# Altium footprint library PcbLib2.PcbLib: 33 footprints (part 2 of 3)
Each footprint in its own frame and in the unit in brackets; x right, y up, seen from the top. Pads: shape width x height; smd on the part's side, far side on the other; paste and mask are expansions set on the pad; w line width, h text height; cw(c..) or ccw(c..) is an arc to the next point about the centre after c.
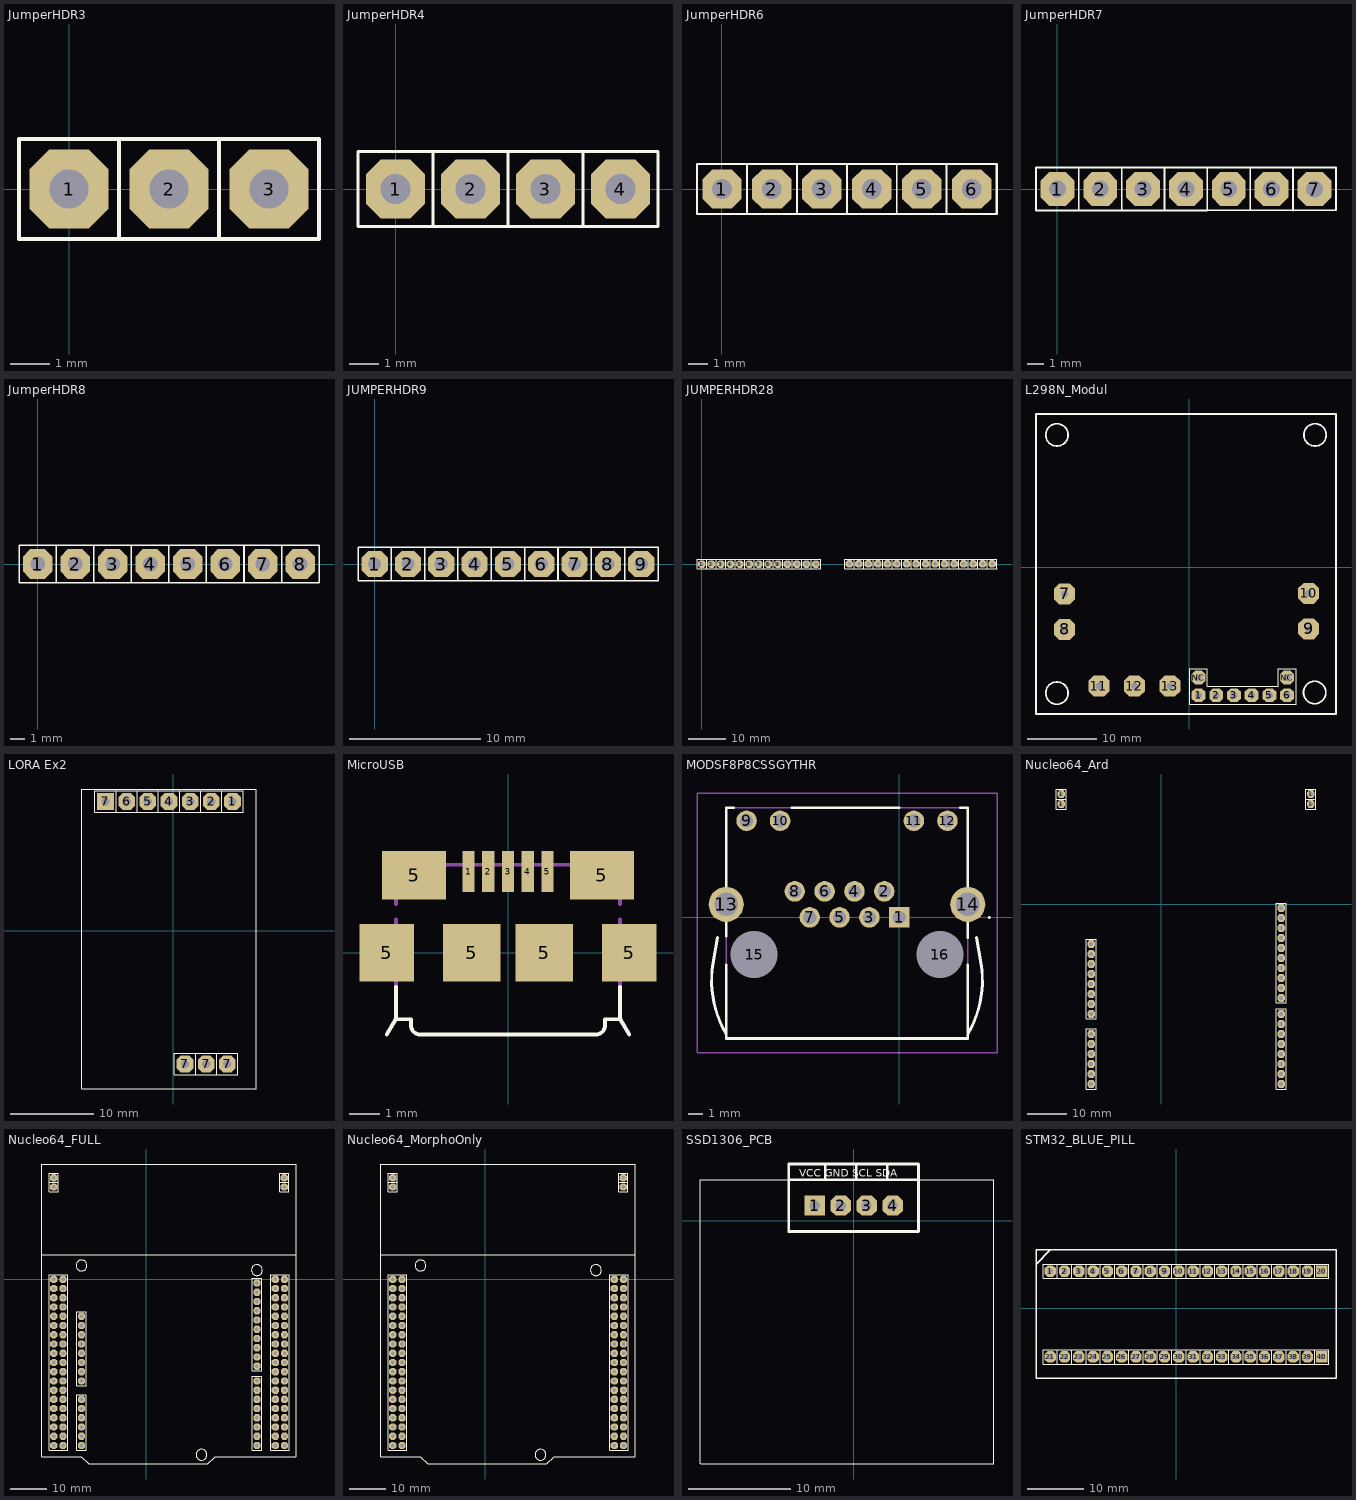
[diagram p1: the footprints below, top view; thin cyan lines are the x and y axes]

## JumperHDR3 [mm]
pads (3):
  oct 2x2 hole 1: 1(0,0) 2(2.54,0) 3(5.08,0)
Top Overlay:
  lines w0.1: 1.27,-1.27 3.81,-1.27 ; 1.27,-1.27 -1.27,-1.27 -1.27,1.27 1.27,1.27 ; 1.27,-1.27 1.27,1.27 ; 1.27,1.27 3.556,1.27 3.81,1.27 ; 3.81,-1.27 3.81,1.27 ; 3.81,-1.27 3.81,1.27 ; 3.81,-1.27 6.35,-1.27 6.35,1.27 3.81,1.27

## JumperHDR4 [mm]
pads (4):
  oct 2x2 hole 1: 1(0,0) 2(2.54,0) 3(5.08,0) 4(7.62,0)
Top Overlay:
  lines w0.1: 1.27,-1.27 3.81,-1.27 ; 1.27,-1.27 -1.27,-1.27 -1.27,1.27 1.27,1.27 ; 1.27,-1.27 1.27,1.27 ; 1.27,1.27 3.556,1.27 3.81,1.27 ; 3.81,-1.27 3.81,1.27 ; 3.81,-1.27 3.81,1.27 ; 3.81,-1.27 6.35,-1.27 ; 3.81,1.27 6.35,1.27 ; 6.35,-1.27 8.89,-1.27 8.89,1.27 8.636,1.27 6.35,1.27 ; 6.35,-1.27 6.35,1.27

## JumperHDR6 [mm]
pads (6):
  oct 2x2 hole 1: 1(0,0) 2(2.54,0) 3(5.08,0) 4(7.62,0) 5(10.16,0) 6(12.7,0)
Top Overlay:
  lines w0.1: 8.85,1.27 13.95,1.27 ; 8.89,-1.263 13.99,-1.263 ; 11.43,-1.26 11.43,1.26 ; 13.97,-1.27 13.97,1.27 ; 13.98,-1.27 13.98,1.27 ; 1.27,-1.27 1.27,1.27 ; 1.27,-1.27 -1.27,-1.27 -1.27,1.27 1.27,1.27 ; 1.27,-1.27 3.81,-1.27 ; 1.27,1.27 3.556,1.27 3.81,1.27 ; 3.81,-1.27 6.35,-1.27 ; 3.81,-1.27 3.81,1.27 ; 3.81,-1.27 3.81,1.27 ; 3.81,1.27 6.35,1.27 ; 6.35,-1.27 6.35,1.27 ; 6.35,-1.27 8.89,-1.27 8.89,1.27 8.636,1.27 6.35,1.27

## JumperHDR7 [mm]
pads (7):
  oct 2x2 hole 1: 1(0,0) 2(2.54,0) 3(5.08,0) 4(7.62,0) 5(10.16,0) 6(12.7,0) 7(15.24,0)
Top Overlay:
  lines w0.1: 8.85,1.27 13.95,1.27 ; 8.89,-1.263 13.99,-1.263 ; 11.43,-1.26 11.43,1.26 ; 13.97,-1.27 13.97,1.27 ; 13.98,1.27 13.98,-1.267 16.52,-1.267 16.52,1.27 14.01,1.27 ; 1.27,-1.27 3.81,-1.27 ; 1.27,-1.27 -1.27,-1.27 -1.27,1.27 1.27,1.27 ; 1.27,-1.27 1.27,1.27 ; 1.27,1.27 3.556,1.27 3.81,1.27 ; 3.81,-1.27 3.81,1.27 ; 3.81,-1.27 3.81,1.27 ; 3.81,-1.27 6.35,-1.27 ; 3.81,1.27 6.35,1.27 ; 6.35,-1.27 8.89,-1.27 8.89,1.27 8.636,1.27 6.35,1.27 ; 6.35,-1.27 6.35,1.27

## JumperHDR8 [mm]
pads (8):
  oct 2x2 hole 1: 1(0,0) 2(2.54,0) 3(5.08,0) 4(7.62,0) 5(10.16,0) 6(12.7,0) 7(15.24,0) 8(17.78,0)
Top Overlay:
  lines w0.1: 8.85,1.27 13.95,1.27 ; 8.89,-1.263 13.99,-1.263 ; 11.43,-1.26 11.43,1.26 ; 13.97,-1.27 13.97,1.27 ; 13.98,1.27 13.98,-1.267 16.52,-1.267 ; 14.01,1.27 16.52,1.27 16.52,-1.267 ; 16.55,1.27 19.06,1.27 19.06,-1.267 16.52,-1.267 ; 1.27,-1.27 1.27,1.27 ; 1.27,-1.27 -1.27,-1.27 -1.27,1.27 1.27,1.27 ; 1.27,-1.27 3.81,-1.27 ; 1.27,1.27 3.556,1.27 3.81,1.27 ; 3.81,-1.27 6.35,-1.27 ; 3.81,-1.27 3.81,1.27 ; 3.81,-1.27 3.81,1.27 ; 3.81,1.27 6.35,1.27 ; 6.35,-1.27 6.35,1.27 ; 6.35,-1.27 8.89,-1.27 8.89,1.27 8.636,1.27 6.35,1.27

## JUMPERHDR9 [mm]
pads (9):
  oct 2x2 hole 1: 1(0,0) 2(2.54,0) 3(5.08,0) 4(7.62,0) 5(10.16,0) 6(12.7,0) 7(15.24,0) 8(17.78,0) 9(20.32,0)
Top Overlay:
  lines w0.1: 8.85,1.27 13.95,1.27 ; 8.89,-1.263 13.99,-1.263 ; 11.43,-1.26 11.43,1.26 ; 13.97,-1.27 13.97,1.27 ; 13.98,1.27 13.98,-1.267 16.52,-1.267 ; 14.01,1.27 16.52,1.27 16.52,-1.267 ; 16.55,1.27 19.06,1.27 19.06,-1.267 ; 19.09,1.27 21.6,1.27 21.6,-1.267 19.06,-1.267 ; 1.27,-1.27 1.27,1.27 ; 1.27,-1.27 -1.27,-1.27 -1.27,1.27 1.27,1.27 ; 1.27,-1.27 3.81,-1.27 ; 1.27,1.27 3.556,1.27 3.81,1.27 ; 3.81,-1.27 6.35,-1.27 ; 3.81,-1.27 3.81,1.27 ; 3.81,-1.27 3.81,1.27 ; 3.81,1.27 6.35,1.27 ; 6.35,-1.27 6.35,1.27 ; 6.35,-1.27 8.89,-1.27 8.89,1.27 8.636,1.27 6.35,1.27 ; 16.52,-1.267 19.06,-1.267

## JUMPERHDR28 [mm]
pads (29):
  oct 2x2 hole 1: 1(0,0) 2(2.54,0) 3(5.08,0) 4(7.62,0) 5(10.16,0) 6(12.7,0) 7(15.24,0) 8(17.78,0) 9(20.32,0) 10(22.86,0) 11(25.4,0) 12(27.94,0) 13(30.48,0) 14(39.406,0.047) 15(41.946,0.047) 16(44.486,0.047) 17(47.026,0.047) 18(49.566,0.047) 19(52.106,0.047) 20(54.646,0.047) 21(57.186,0.047) 22(59.726,0.047) 23(62.266,0.047) 24(64.806,0.047) 25(67.346,0.047) 26(69.886,0.047) 27(72.426,0.047) 28(74.966,0.047) 29(77.506,0.047)
Top Overlay:
  lines w0.1: 8.85,1.27 13.95,1.27 ; 8.89,-1.263 13.99,-1.263 ; 11.43,-1.26 11.43,1.26 ; 13.98,-1.27 13.98,1.27 ; 24.09,1.27 29.19,1.27 ; 24.13,-1.263 29.23,-1.263 ; 26.67,-1.26 26.67,1.26 ; 29.22,-1.27 29.22,1.27 ; 31.75,-1.27 29.21,-1.27 29.21,1.27 31.75,1.27 ; 31.768,-1.295 31.768,1.245 ; 45.716,1.317 50.816,1.317 ; 45.756,-1.216 50.856,-1.216 ; 48.296,-1.213 48.296,1.307 ; 50.846,-1.223 50.846,1.317 ; 60.956,1.317 66.056,1.317 ; 60.996,-1.216 66.096,-1.216 ; 63.536,-1.213 63.536,1.307 ; 66.086,-1.223 66.086,1.317 ; 71.116,1.317 76.216,1.317 ; 71.156,-1.216 76.256,-1.216 ; 73.656,1.317 78.756,1.317 ; 73.696,-1.216 78.796,-1.216 ; 73.696,-1.213 73.696,1.307 ; 76.246,-1.223 76.246,1.317 ; 78.786,-1.223 78.786,1.317 ; 1.27,-1.27 3.81,-1.27 ; 1.27,-1.27 -1.27,-1.27 -1.27,1.27 1.27,1.27 ; 1.27,-1.27 1.27,1.27 ; 1.27,1.27 3.556,1.27 3.81,1.27 ; 3.81,-1.27 3.81,1.27 ; 3.81,-1.27 3.81,1.27 ; 3.81,-1.27 6.35,-1.27 ; 3.81,1.27 6.35,1.27 ; 6.35,-1.27 8.89,-1.27 8.89,1.27 8.636,1.27 6.35,1.27 ; 6.35,-1.27 6.35,1.27 ; 16.51,-1.27 19.05,-1.27 ; 16.51,-1.27 13.97,-1.27 13.97,1.27 16.51,1.27 ; 16.51,-1.27 16.51,1.27 ; 16.51,1.27 18.796,1.27 19.05,1.27 ; 19.05,-1.27 19.05,1.27 ; 19.05,-1.27 19.05,1.27 ; 19.05,-1.27 21.59,-1.27 ; 19.05,1.27 21.59,1.27 ; 21.59,-1.27 24.13,-1.27 24.13,1.27 23.876,1.27 21.59,1.27 ; 21.59,-1.27 21.59,1.27 ; 40.676,-1.223 38.136,-1.223 38.136,1.317 40.422,1.317 40.676,1.317 ; 40.676,-1.223 40.676,1.317 ; 40.676,-1.223 40.676,1.317 ; 40.676,-1.223 43.216,-1.223 ; 40.676,1.317 43.216,1.317 ; 43.216,-1.223 45.756,-1.223 45.756,1.317 45.502,1.317 43.216,1.317 ; 43.216,-1.223 43.216,1.317 ; 53.376,-1.223 55.916,-1.223 ; 53.376,-1.223 50.836,-1.223 50.836,1.317 53.376,1.317 ; 53.376,-1.223 53.376,1.317 ; 53.376,1.317 55.662,1.317 55.916,1.317 ; 55.916,-1.223 55.916,1.317 ; 55.916,-1.223 55.916,1.317 ; 55.916,-1.223 58.456,-1.223 ; 55.916,1.317 58.456,1.317 ; 58.456,-1.223 60.996,-1.223 60.996,1.317 60.742,1.317 58.456,1.317 ; 58.456,-1.223 58.456,1.317 ; 68.616,-1.223 71.156,-1.223 71.156,1.317 70.902,1.317 68.616,1.317 ; 68.616,-1.223 66.076,-1.223 66.076,1.317 68.616,1.317 ; 68.616,-1.223 68.616,1.317

## L298N_Modul [mm]
pads (15):
  oct 2x2 hole 1: 1(1.295,-18.314) 2(3.835,-18.314) 3(6.375,-18.314) 4(8.915,-18.314) 5(11.455,-18.314) 6(13.995,-18.314) NC(1.295,-15.774) NC(13.995,-15.774)
  oct 3x3 hole 1: 7(-17.903,-3.797) 8(-17.903,-8.877) 9(17.087,-8.788) 10(17.087,-3.708) 11(-12.977,-16.997) 12(-7.897,-16.997) 13(-2.817,-16.997)
Top Overlay:
  circle w0.254: c-19,19 r1.6
  circle w0.254: c18,19 r1.6
  circle w0.254: c17.938,-17.918 r1.6
  circle w0.254: c-19,-18 r1.6
  lines w0.1: 0.028,-19.589 15.268,-19.589 15.268,-14.509 12.728,-14.509 12.728,-17.049 2.568,-17.049 2.568,-14.509 0.028,-14.509 0.028,-19.589
  lines w0.254: -19,22 -22,22 ; -22,22 21,22 21,-21 -22,-21 -22,22

## LORA Ex2 [mm]
pads (10):
  oct 2x2 hole 1: 1(7.12,15.5) 2(4.58,15.5) 3(2.04,15.5) 4(-0.5,15.5) 5(-3.04,15.5) 6(-5.58,15.5) 7(1.42,-16) 7(3.96,-16) 7(6.5,-16)
  rect 2x2 hole 1: 7(-8.12,15.5)
Top Overlay:
  lines w0.1: 0.11,-17.267 0.11,-14.73 5.21,-14.73 ; 0.15,-17.263 5.25,-17.263 ; 0.73,16.77 5.83,16.77 ; 0.77,14.237 5.87,14.237 ; 2.69,-17.26 2.69,-14.74 ; 3.31,14.24 3.31,16.76 ; 5.23,-17.27 5.23,-14.73 ; 5.24,-14.73 5.24,-17.267 7.78,-17.267 7.78,-14.73 5.27,-14.73 ; 5.85,14.23 5.85,16.77 ; 5.86,16.77 5.86,14.233 8.4,14.233 8.4,16.77 5.89,16.77 ; -6.85,14.23 -4.31,14.23 ; -6.85,14.23 -9.39,14.23 -9.39,16.77 -6.85,16.77 ; -6.85,14.23 -6.85,16.77 ; -6.85,16.77 -4.564,16.77 -4.31,16.77 ; -4.31,14.23 -4.31,16.77 ; -4.31,14.23 -4.31,16.77 ; -4.31,14.23 -1.77,14.23 ; -4.31,16.77 -1.77,16.77 ; -1.77,14.23 0.77,14.23 0.77,16.77 0.516,16.77 -1.77,16.77 ; -1.77,14.23 -1.77,16.77 ; -11,-19 10,-19 10,17 -11,17 -11,-19

## MicroUSB [mm]
pads (11):
  rect 0.4x1.35 smd: 1(-1.3,2.675) 2(-0.65,2.675) 3(0,2.675) 4(0.65,2.675) 5(1.3,2.675)
  rect 1.8x1.9 smd: 5(-4,0) 5(4,0)
  rect 2.1x1.6 smd: 5(-3.1,2.55) 5(3.1,2.55)
  rect 1.9x1.9 smd: 5(-1.2,0) 5(1.2,0)
Top Overlay:
  lines w0.127: -4,-2.7 -3.7,-2.2 ; -3.7,-1.13 -3.7,-2.2 ; 3.7,-1.13 3.7,-2.2 ; 4,-2.7 3.7,-2.2 ; -3.7,-2.2 -3.2,-2.2 -3.2,-2.4 ccw(c-2.9,-2.4) -2.9,-2.7 2.9,-2.7 ccw(c2.9,-2.4) 3.2,-2.4 3.2,-2.2 3.7,-2.2
Mechanical 13:
  lines w0.127: -3.7,-1.1 -3.7,1.1 ; -3.7,1.6 -3.7,2.9 3.7,2.9 3.7,1.6 ; 3.7,-1.1 3.7,1.1
3D body "User Library-ZX62D-AB-5P8.step": height 2.76, standoff -0.64, extent -4.325,-2.8 4.325,3.099

## MODSF8P8CSSGYTHR [mm]
pads (16):
  rect 1.4x1.4 hole 0.9: 1(0,0)
  round 1.4 hole 0.9: 2(-1.02,1.78) 3(-2.04,0) 4(-3.06,1.78) 5(-4.08,0) 6(-5.1,1.78) 7(-6.12,0) 8(-7.14,1.78) 9(-10.43,6.6) 10(-8.14,6.6) 11(1,6.6) 12(3.29,6.6)
  round 2.4 hole 1.6: 13(-11.82,0.89) 14(4.68,0.89)
  round 1.615 hole 3.23 unplated: 15(-9.92,-2.54) 16(2.78,-2.54)
Top Overlay:
  lines w0.1: 6.1,0 cw(c6.15,0) 6.2,0 cw(c6.15,0) 6.1,0
  lines w0.2: -12.72,-3.16 -12.42,-1.36 ; -12.719,-3.156 ccw(c-5.706,-4.33) -11.82,-7.96 ; -11.82,-3.26 -11.82,-8.26 4.68,-8.26 4.68,-3.26 ; -11.82,-1.26 -11.82,7.49 -11.32,7.49 ; -7.32,7.49 0,7.49 ; 4.18,7.49 4.68,7.49 4.68,-1.36 ; 4.68,-7.96 ccw(c-1.435,-4.33) 5.579,-3.156 ; 5.28,-1.36 5.58,-3.16
Mechanical 13:
  lines w0.1: -12.72,-3.16 -12.42,-1.36 ; -12.719,-3.156 ccw(c-5.706,-4.33) -11.82,-7.96 ; 4.68,-7.96 ccw(c-1.435,-4.33) 5.579,-3.156 ; 5.28,-1.36 5.58,-3.16 ; -11.82,-8.26 -11.82,7.49 4.68,7.49 4.68,-8.26 -11.82,-8.26
Mechanical 15:
  lines w0.1: -13.817,-9.26 -13.817,8.49 6.677,8.49 6.677,-9.26 -13.817,-9.26

## Nucleo64_Ard [mm]
pads (36):
  oct 2x2 hole 1: 1(-25.4,25.4) 1(-25.4,27.94) 1(38,25.4) 1(38,27.94) 11(-17.78,-10.16) 13(-17.78,-12.7) 15(-17.78,-15.24) 17(-17.78,-17.78) 19(-17.78,-20.32) 21(-17.78,-22.86) 23(-17.78,-25.4) 25(-17.78,-27.94) 29(-17.78,-33.02) 31(-17.78,-35.56) 33(-17.78,-38.1) 35(-17.78,-40.64) 37(-17.78,-43.18) 39(-17.78,-45.72) 42(30.48,-1.016) 44(30.48,-3.556) 46(30.48,-6.096) 48(30.48,-8.636) 50(30.48,-11.176) 52(30.48,-13.716) 54(30.48,-16.256) 56(30.48,-18.796) 58(30.48,-21.336) 60(30.48,-23.876) 62(30.48,-27.94) 64(30.48,-30.48) 66(30.48,-33.02) 68(30.48,-35.56) 70(30.48,-38.1) 72(30.48,-40.64) 74(30.48,-43.18) 76(30.48,-45.72)
Top Overlay:
  lines w0.1: -16.51,-29.21 -19.05,-29.21 -19.05,-8.89 -16.51,-8.89 -16.51,-29.2 ; -26.67,26.67 -26.67,24.13 -24.13,24.13 -24.13,24.384 -24.13,26.67 ; -26.67,26.67 -26.67,29.21 -24.13,29.21 -24.13,26.67 ; -26.67,26.67 -24.13,26.67 ; 36.73,26.67 36.73,24.13 39.27,24.13 39.27,24.384 39.27,26.67 ; 36.73,26.67 36.73,29.21 39.27,29.21 39.27,26.67 ; 36.73,26.67 39.27,26.67 ; -19.05,-46.99 -19.05,-31.75 -16.51,-31.75 -16.51,-46.99 -19.05,-46.99 ; 29.21,-46.99 29.21,-26.67 31.75,-26.67 31.75,-46.99 29.21,-46.99 ; 29.21,-25.146 29.21,0.254 31.75,0.254 31.75,-25.146 29.21,-25.146

## Nucleo64_FULL [mm]
pads (112):
  oct 2x2 hole 1: 1(-25.4,25.4) 1(-25.4,27.94) 1(38,25.4) 1(38,27.94) 2(-25.4,0) 3(-22.86,0) 4(-25.4,-2.54) 5(-22.86,-2.54) 6(-25.4,-5.08) 7(-22.86,-5.08) 8(-25.4,-7.62) 9(-22.86,-7.62) 10(-25.4,-10.16) 11(-22.86,-10.16) 11(-17.78,-10.16) 12(-25.4,-12.7) 13(-22.86,-12.7) 13(-17.78,-12.7) 14(-25.4,-15.24) 15(-22.86,-15.24) 15(-17.78,-15.24) 16(-25.4,-17.78) 17(-22.86,-17.78) 17(-17.78,-17.78) 18(-25.4,-20.32) 19(-22.86,-20.32) 19(-17.78,-20.32) 20(-25.4,-22.86) 21(-22.86,-22.86) 21(-17.78,-22.86) 22(-25.4,-25.4) 23(-22.86,-25.4) 23(-17.78,-25.4) 24(-25.4,-27.94) 25(-22.86,-27.94) 25(-17.78,-27.94) 26(-25.4,-30.48) 27(-22.86,-30.48) 28(-25.4,-33.02) 29(-22.86,-33.02) 29(-17.78,-33.02) 30(-25.4,-35.56) 31(-22.86,-35.56) 31(-17.78,-35.56) 32(-25.4,-38.1) 33(-22.86,-38.1) 33(-17.78,-38.1) 34(-25.4,-40.64) 35(-22.86,-40.64) 35(-17.78,-40.64) 36(-25.4,-43.18) 37(-22.86,-43.18) 37(-17.78,-43.18) 38(-25.4,-45.72) 39(-22.86,-45.72) 39(-17.78,-45.72) 40(35.56,0) 41(38.1,0) 42(30.48,-1.016) 42(35.56,-2.54) 43(38.1,-2.54) 44(30.48,-3.556) 44(35.56,-5.08) 45(38.1,-5.08) 46(30.48,-6.096) 46(35.56,-7.62) 47(38.1,-7.62) 48(30.48,-8.636) 48(35.56,-10.16) 49(38.1,-10.16) 50(30.48,-11.176) 50(35.56,-12.7) 51(38.1,-12.7) 52(30.48,-13.716) 52(35.56,-15.24) 53(38.1,-15.24) 54(30.48,-16.256) 54(35.56,-17.78) 55(38.1,-17.78) 56(30.48,-18.796) 56(35.56,-20.32) 57(38.1,-20.32) 58(30.48,-21.336) 58(35.56,-22.86) 59(38.1,-22.86) 60(30.48,-23.876) 60(35.56,-25.4) 61(38.1,-25.4) 62(30.48,-27.94) 62(35.56,-27.94) 63(38.1,-27.94) 64(30.48,-30.48) 64(35.56,-30.48) 65(38.1,-30.48) 66(30.48,-33.02) 66(35.56,-33.02) 67(38.1,-33.02) 68(30.48,-35.56) 68(35.56,-35.56) 69(38.1,-35.56) 70(30.48,-38.1) 70(35.56,-38.1) 71(38.1,-38.1) 72(30.48,-40.64) 72(35.56,-40.64) 73(38.1,-40.64) 74(30.48,-43.18) 74(35.56,-43.18) 75(38.1,-43.18) 76(30.48,-45.72) 76(35.56,-45.72) 77(38.1,-45.72)
Top Overlay:
  circle w0.254: c-17.78,3.81 r1.5
  circle w0.254: c30.48,2.54 r1.5
  circle w0.254: c15.24,-48.26 r1.5
  lines w0.1: -16.51,-29.21 -19.05,-29.21 -19.05,-8.89 -16.51,-8.89 -16.51,-29.2 ; -26.67,26.67 -24.13,26.67 ; -26.67,26.67 -26.67,29.21 -24.13,29.21 -24.13,26.67 ; -26.67,26.67 -26.67,24.13 -24.13,24.13 -24.13,24.384 -24.13,26.67 ; 36.73,26.67 39.27,26.67 ; 36.73,26.67 36.73,29.21 39.27,29.21 39.27,26.67 ; 36.73,26.67 36.73,24.13 39.27,24.13 39.27,24.384 39.27,26.67 ; -26.67,-46.99 -21.59,-46.99 -21.59,1.27 -26.67,1.27 -26.67,-46.99 ; -19.05,-46.99 -16.51,-46.99 -16.51,-31.75 -19.05,-31.75 -19.05,-46.99 ; 29.21,-46.99 31.75,-46.99 31.75,-26.67 29.21,-26.67 29.21,-46.99 ; 29.21,-25.146 31.75,-25.146 31.75,0.254 29.21,0.254 29.21,-25.146 ; 34.29,-46.99 34.29,1.27 39.37,1.27 39.37,-46.99 34.29,-46.99
  lines w0.254: -28.702,-48.768 -17.78,-48.768 -15.748,-50.8 17.018,-50.8 19.05,-48.768 41.148,-48.768 ; -28.7,-48.768 -28.7,31.74 41.3,31.74 41.3,-48.768 ; -28.7,6.84 41.3,6.84

## Nucleo64_MorphoOnly [mm]
pads (80):
  oct 2x2 hole 1: 1(-25.4,25.4) 1(-25.4,27.94) 1(38,25.4) 1(38,27.94) 2(-25.4,0) 3(-22.86,0) 4(-25.4,-2.54) 5(-22.86,-2.54) 6(-25.4,-5.08) 7(-22.86,-5.08) 8(-25.4,-7.62) 9(-22.86,-7.62) 10(-25.4,-10.16) 11(-22.86,-10.16) 12(-25.4,-12.7) 13(-22.86,-12.7) 14(-25.4,-15.24) 15(-22.86,-15.24) 16(-25.4,-17.78) 17(-22.86,-17.78) 18(-25.4,-20.32) 19(-22.86,-20.32) 20(-25.4,-22.86) 21(-22.86,-22.86) 22(-25.4,-25.4) 23(-22.86,-25.4) 24(-25.4,-27.94) 25(-22.86,-27.94) 26(-25.4,-30.48) 27(-22.86,-30.48) 28(-25.4,-33.02) 29(-22.86,-33.02) 30(-25.4,-35.56) 31(-22.86,-35.56) 32(-25.4,-38.1) 33(-22.86,-38.1) 34(-25.4,-40.64) 35(-22.86,-40.64) 36(-25.4,-43.18) 37(-22.86,-43.18) 38(-25.4,-45.72) 39(-22.86,-45.72) 40(35.56,0) 41(38.1,0) 42(35.56,-2.54) 43(38.1,-2.54) 44(35.56,-5.08) 45(38.1,-5.08) 46(35.56,-7.62) 47(38.1,-7.62) 48(35.56,-10.16) 49(38.1,-10.16) 50(35.56,-12.7) 51(38.1,-12.7) 52(35.56,-15.24) 53(38.1,-15.24) 54(35.56,-17.78) 55(38.1,-17.78) 56(35.56,-20.32) 57(38.1,-20.32) 58(35.56,-22.86) 59(38.1,-22.86) 60(35.56,-25.4) 61(38.1,-25.4) 62(35.56,-27.94) 63(38.1,-27.94) 64(35.56,-30.48) 65(38.1,-30.48) 66(35.56,-33.02) 67(38.1,-33.02) 68(35.56,-35.56) 69(38.1,-35.56) 70(35.56,-38.1) 71(38.1,-38.1) 72(35.56,-40.64) 73(38.1,-40.64) 74(35.56,-43.18) 75(38.1,-43.18) 76(35.56,-45.72) 77(38.1,-45.72)
Top Overlay:
  circle w0.254: c-17.78,3.81 r1.5
  circle w0.254: c30.48,2.54 r1.5
  circle w0.254: c15.24,-48.26 r1.5
  lines w0.1: -26.67,26.67 -24.13,26.67 ; -26.67,26.67 -26.67,29.21 -24.13,29.21 -24.13,26.67 ; -26.67,26.67 -26.67,24.13 -24.13,24.13 -24.13,24.384 -24.13,26.67 ; 36.73,26.67 39.27,26.67 ; 36.73,26.67 36.73,29.21 39.27,29.21 39.27,26.67 ; 36.73,26.67 36.73,24.13 39.27,24.13 39.27,24.384 39.27,26.67 ; -26.67,-46.99 -21.59,-46.99 -21.59,1.27 -26.67,1.27 -26.67,-46.99 ; 34.29,-46.99 34.29,1.27 39.37,1.27 39.37,-46.99 34.29,-46.99
  lines w0.254: -28.702,-48.768 -17.78,-48.768 -15.748,-50.8 17.018,-50.8 19.05,-48.768 41.148,-48.768 ; -28.7,-48.768 -28.7,31.74 41.3,31.74 41.3,-48.768 ; -28.7,6.84 41.3,6.84

## SSD1306_PCB [mm]
pads (4):
  rect 2x2 hole 1: 1(-3.81,1.492)
  oct 2x2 hole 1: 2(-1.27,1.492) 3(1.27,1.492) 4(3.81,1.492)
Top Overlay:
  lines w0.1: -15,-23.8 -15,4 13.7,4 ; -14.978,-23.808 13.697,-23.808 13.697,4.001
  lines w0.254: 0.254,4.032 0.254,5.556 ; -6.35,4.032 -6.35,-1.048 6.35,-1.048 6.35,4.032 ; -6.35,4.032 6.35,4.032 ; -6.35,4.032 -6.35,5.556 -2.794,5.556 ; -2.794,5.556 -2.794,4.032 -2.794,5.302 -2.794,5.556 ; -2.794,5.556 0.254,5.556 ; 0.254,5.556 3.302,5.556 ; 3.302,5.556 3.302,4.032 3.302,5.556 ; 3.302,5.556 6.35,5.556 6.35,4.032
  text "VCC GND SCL SDA" at -5.334,4.286 h0.76

## STM32_BLUE_PILL [mm]
pads (40):
  oct 2x2 hole 1: 1(-22.352,6.604) 2(-19.812,6.604) 3(-17.272,6.604) 4(-14.732,6.604) 5(-12.192,6.604) 6(-9.652,6.604) 7(-7.112,6.604) 8(-4.572,6.604) 9(-2.032,6.604) 10(0.508,6.604) 11(3.048,6.604) 12(5.588,6.604) 13(8.128,6.604) 14(10.668,6.604) 15(13.208,6.604) 16(15.748,6.604) 17(18.288,6.604) 18(20.828,6.604) 19(23.368,6.604) 21(-22.352,-8.636) 22(-19.812,-8.636) 23(-17.272,-8.636) 24(-14.732,-8.636) 25(-12.192,-8.636) 26(-9.652,-8.636) 27(-7.112,-8.636) 28(-4.572,-8.636) 29(-2.032,-8.636) 30(0.508,-8.636) 31(3.048,-8.636) 32(5.588,-8.636) 33(8.128,-8.636) 34(10.668,-8.636) 35(13.208,-8.636) 36(15.748,-8.636) 37(18.288,-8.636) 38(20.828,-8.636) 39(23.368,-8.636)
  rect 2x2 hole 1: 20(25.908,6.604) 40(25.908,-8.636)
Top Overlay:
  lines w0.1: -21.082,-9.906 -18.542,-9.906 ; -21.082,-9.906 -23.622,-9.906 -23.622,-7.366 -21.082,-7.366 ; -21.082,-9.906 -21.082,-7.366 ; -21.082,-9.906 -21.082,-7.366 ; -21.082,-7.366 -18.542,-7.366 ; -21.082,5.334 -23.622,5.334 -23.622,7.874 -21.082,7.874 ; -21.082,5.334 -18.542,5.334 ; -21.082,5.334 -21.082,7.874 ; -21.082,7.874 -18.542,7.874 ; -18.542,-9.906 -16.002,-9.906 ; -18.542,-9.906 -18.542,-7.366 ; -18.542,-9.906 -18.542,-7.366 ; -18.542,-7.366 -16.002,-7.366 ; -18.542,5.334 -16.002,5.334 ; -18.542,5.334 -18.542,7.874 ; -18.542,5.334 -18.542,7.874 ; -18.542,7.874 -16.002,7.874 ; -16.002,-9.906 -13.462,-9.906 ; -16.002,-9.906 -16.002,-7.366 ; -16.002,-7.366 -13.462,-7.366 ; -16.002,5.334 -13.462,5.334 ; -16.002,5.334 -16.002,7.874 ; -16.002,7.874 -13.462,7.874 ; -13.462,-9.906 -10.922,-9.906 ; -13.462,-9.906 -13.462,-7.366 ; -13.462,-9.906 -13.462,-7.366 ; -13.462,-7.366 -10.922,-7.366 ; -13.462,5.334 -10.922,5.334 ; -13.462,5.334 -13.462,7.874 ; -13.462,5.334 -13.462,7.874 ; -13.462,7.874 -10.922,7.874 ; -10.922,-9.906 -8.382,-9.906 ; -10.922,-9.906 -10.922,-7.366 ; -10.922,-7.366 -8.382,-7.366 ; -10.922,5.334 -8.382,5.334 ; -10.922,5.334 -10.922,7.874 ; -10.922,7.874 -8.382,7.874 ; -8.382,-9.906 -5.842,-9.906 ; -8.382,-9.906 -8.382,-7.366 ; -8.382,-9.906 -8.382,-7.366 ; -8.382,-7.366 -5.842,-7.366 ; -8.382,5.334 -5.842,5.334 ; -8.382,5.334 -8.382,7.874 ; -8.382,5.334 -8.382,7.874 ; -8.382,7.874 -5.842,7.874 ; -5.842,-9.906 -3.302,-9.906 ; -5.842,-9.906 -5.842,-7.366 ; -5.842,-7.366 -3.302,-7.366 ; -5.842,5.334 -3.302,5.334 ; -5.842,5.334 -5.842,7.874 ; -5.842,7.874 -3.302,7.874 ; -3.302,-9.906 -0.762,-9.906 ; -3.302,-9.906 -3.302,-7.366 ; -3.302,-9.906 -3.302,-7.366 ; -3.302,-7.366 -0.762,-7.366 ; -3.302,5.334 -0.762,5.334 ; -3.302,5.334 -3.302,7.874 ; -3.302,5.334 -3.302,7.874 ; -3.302,7.874 -0.762,7.874 ; -0.762,-9.906 1.778,-9.906 ; -0.762,-9.906 -0.762,-7.366 ; -0.762,-7.366 1.778,-7.366 ; -0.762,5.334 1.778,5.334 ; -0.762,5.334 -0.762,7.874 ; -0.762,7.874 1.778,7.874 ; 1.778,-9.906 4.318,-9.906 ; 1.778,-9.906 1.778,-7.366 ; 1.778,-9.906 1.778,-7.366 ; 1.778,-7.366 4.318,-7.366 ; 1.778,5.334 4.318,5.334 ; 1.778,5.334 1.778,7.874 ; 1.778,5.334 1.778,7.874 ; 1.778,7.874 4.318,7.874 ; 4.318,-9.906 6.858,-9.906 ; 4.318,-9.906 4.318,-7.366 ; 4.318,-7.366 6.858,-7.366 ; 4.318,5.334 6.858,5.334 ; 4.318,5.334 4.318,7.874 ; 4.318,7.874 6.858,7.874 ; 6.858,-9.906 9.398,-9.906 ; 6.858,-9.906 6.858,-7.366 ; 6.858,-9.906 6.858,-7.366 ; 6.858,-7.366 9.398,-7.366 ; 6.858,5.334 9.398,5.334 ; 6.858,5.334 6.858,7.874 ; 6.858,5.334 6.858,7.874 ; 6.858,7.874 9.398,7.874 ; 9.398,-9.906 11.938,-9.906 ; 9.398,-9.906 9.398,-7.366 ; 9.398,-7.366 11.938,-7.366 ; 9.398,5.334 11.938,5.334 ; 9.398,5.334 9.398,7.874 ; 9.398,7.874 11.938,7.874 ; 11.938,-9.906 14.478,-9.906 ; 11.938,-9.906 11.938,-7.366 ; 11.938,-9.906 11.938,-7.366 ; 11.938,-7.366 14.478,-7.366 ; 11.938,5.334 14.478,5.334 ; 11.938,5.334 11.938,7.874 ; 11.938,5.334 11.938,7.874 ; 11.938,7.874 14.478,7.874 ; 14.478,-9.906 17.018,-9.906 ; 14.478,-9.906 14.478,-7.366 ; 14.478,-7.366 17.018,-7.366 ; 14.478,5.334 17.018,5.334 ; 14.478,5.334 14.478,7.874 ; 14.478,7.874 17.018,7.874 ; 17.018,-9.906 19.558,-9.906 ; 17.018,-9.906 17.018,-7.366 ; 17.018,-9.906 17.018,-7.366 ; 17.018,-7.366 19.558,-7.366 ; 17.018,5.334 19.558,5.334 ; 17.018,5.334 17.018,7.874 ; 17.018,5.334 17.018,7.874 ; 17.018,7.874 19.558,7.874 ; 19.558,-9.906 22.098,-9.906 ; 19.558,-9.906 19.558,-7.366 ; 19.558,-7.366 22.098,-7.366 ; 19.558,5.334 22.098,5.334 ; 19.558,5.334 19.558,7.874 ; 19.558,7.874 22.098,7.874 ; 22.098,-9.906 24.638,-9.906 ; 22.098,-9.906 22.098,-7.366 ; 22.098,-9.906 22.098,-7.366 ; 22.098,-7.366 24.638,-7.366 ; 22.098,5.334 24.638,5.334 ; 22.098,5.334 22.098,7.874 ; 22.098,5.334 22.098,7.874 ; 22.098,7.874 24.638,7.874 ; 24.638,-9.906 27.178,-9.906 ; 24.638,-9.906 24.638,-7.366 ; 24.638,-7.366 27.178,-7.366 ; 24.638,5.334 27.178,5.334 ; 24.638,5.334 24.638,7.874 ; 24.638,7.874 27.178,7.874 ; 27.178,-9.906 27.178,-7.366 ; 27.178,-9.906 27.178,-7.366 ; 27.178,5.334 27.178,7.874 ; 27.178,5.334 27.178,7.874
  lines w0.254: -24.892,8.128 -24.892,7.874 -22.352,10.414 ; -24.892,-12.446 -24.892,10.414 28.448,10.414 28.448,-12.446 -24.892,-12.446